# EAGLE library part 2-406549-1 (library JetsonProj)
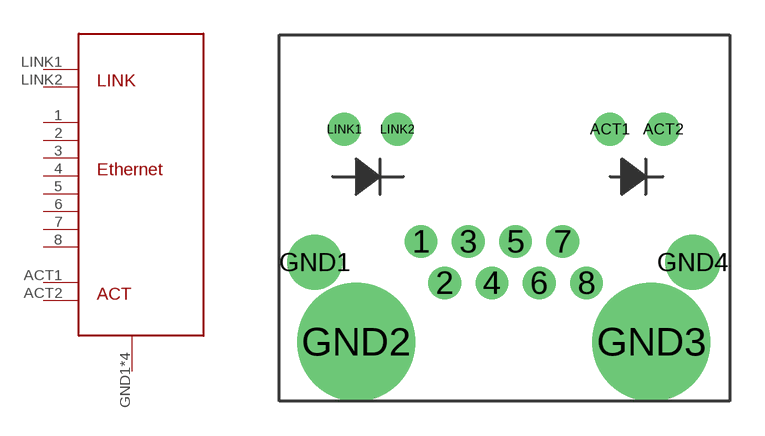
[diagram p2: symbol with the pads of 2-406549-1; footprint 2-406549-1]

Designator prefix -

## 2-406549-1  [2-406549-1]
1  1
2  2
3  3
4  4
5  5
6  6
7  7
8  8
ACT1  ACT1
ACT2  ACT2
GND1  P$1
GND2  P$1
GND3  P$1
GND4  P$1
LINK1  LINK1
LINK2  LINK2

## Footprint 2-406549-1 (pad centres in mm)
drill 0.9: 1 0,1.778; 2 1.016,0; 3 2.032,1.778; 4 3.048,0; 5 4.064,1.778; 6 5.08,0; 7 6.096,1.778; 8 7.112,0; ACT1 8.128,6.604; ACT2 10.414,6.604; LINK1 -3.302,6.604; LINK2 -1.016,6.604
drill 1.575: GND1 -4.572,0.889; GND4 11.684,0.889
drill 3.251 pad 5.08: GND2 -2.794,-2.54; GND3 9.906,-2.54